# EAGLE library part ATMEGA1284P-AU (library Common-Parts-Library-Eagle)
ATmega Series 20 MHz 128 KB Flash 16 KB SRAM 8-Bit Microcontroller - TQFP-44
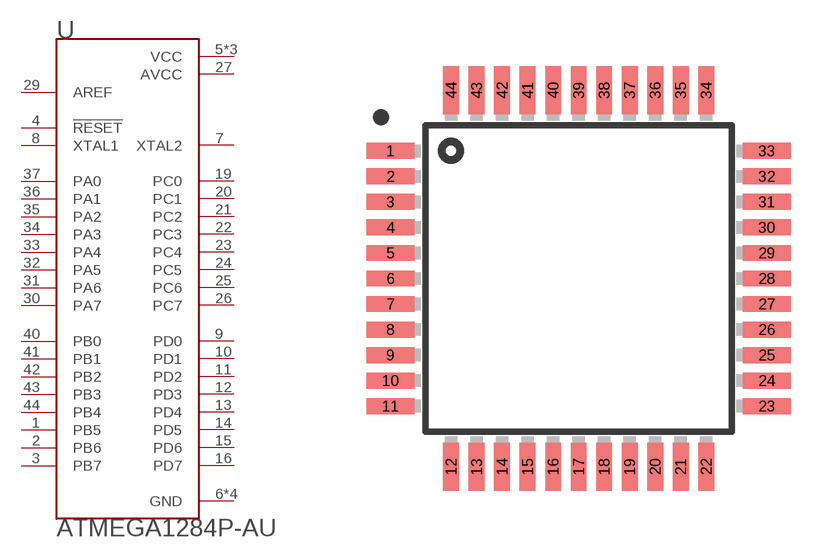
[diagram p35: symbol with the pads of ATMEGA1284P-AU_QFP80P1200X1200X120-44N; footprint ATMEGA1284P-AU_QFP80P1200X1200X120-44N]

Designator prefix U

## ATMEGA1284P-AU (MANUFACTURER: Atmel)  [ATMEGA1284P-AU_QFP80P1200X1200X120-44N]
1  PB5
2  PB6
3  PB7
4  !RESET  in
5  VCC  pwr
6  GND  pwr
7  XTAL2  out
8  XTAL1  in
9  PD0
10  PD1
11  PD2
12  PD3
13  PD4
14  PD5
15  PD6
16  PD7
17  VCC  pwr
18  GND  pwr
19  PC0
20  PC1
21  PC2
22  PC3
23  PC4
24  PC5
25  PC6
26  PC7
27  AVCC  pwr
28  GND  pwr
29  AREF  in
30  PA7
31  PA6
32  PA5
33  PA4
34  PA3
35  PA2
36  PA1
37  PA0
38  VCC  pwr
39  GND  pwr
40  PB0
41  PB1
42  PB2
43  PB3
44  PB4

## Footprint ATMEGA1284P-AU_QFP80P1200X1200X120-44N (pad centres in mm)
smd 1.5 x 0.5: 1 -5.9,4; 2 -5.9,3.2; 3 -5.9,2.4; 4 -5.9,1.6; 5 -5.9,0.8; 6 -5.9,0; 7 -5.9,-0.8; 8 -5.9,-1.6; 9 -5.9,-2.4; 10 -5.9,-3.2; 11 -5.9,-4; 23 5.9,-4; 24 5.9,-3.2; 25 5.9,-2.4; 26 5.9,-1.6; 27 5.9,-0.8; 28 5.9,0; 29 5.9,0.8; 30 5.9,1.6; 31 5.9,2.4; 32 5.9,3.2; 33 5.9,4
smd 0.5 x 1.5: 12 -4,-5.9; 13 -3.2,-5.9; 14 -2.4,-5.9; 15 -1.6,-5.9; 16 -0.8,-5.9; 17 0,-5.9; 18 0.8,-5.9; 19 1.6,-5.9; 20 2.4,-5.9; 21 3.2,-5.9; 22 4,-5.9; 34 4,5.9; 35 3.2,5.9; 36 2.4,5.9; 37 1.6,5.9; 38 0.8,5.9; 39 0,5.9; 40 -0.8,5.9; 41 -1.6,5.9; 42 -2.4,5.9; 43 -3.2,5.9; 44 -4,5.9